# Altium footprint library Разъемы импортные.PcbLib: 127 footprints (part 7 of 8)
Each footprint in its own frame and in the unit in brackets; x right, y up, seen from the top. Pads: shape width x height; smd on the part's side, far side on the other; paste and mask are expansions set on the pad; w line width, h text height; cw(c..) or ccw(c..) is an arc to the next point about the centre after c.
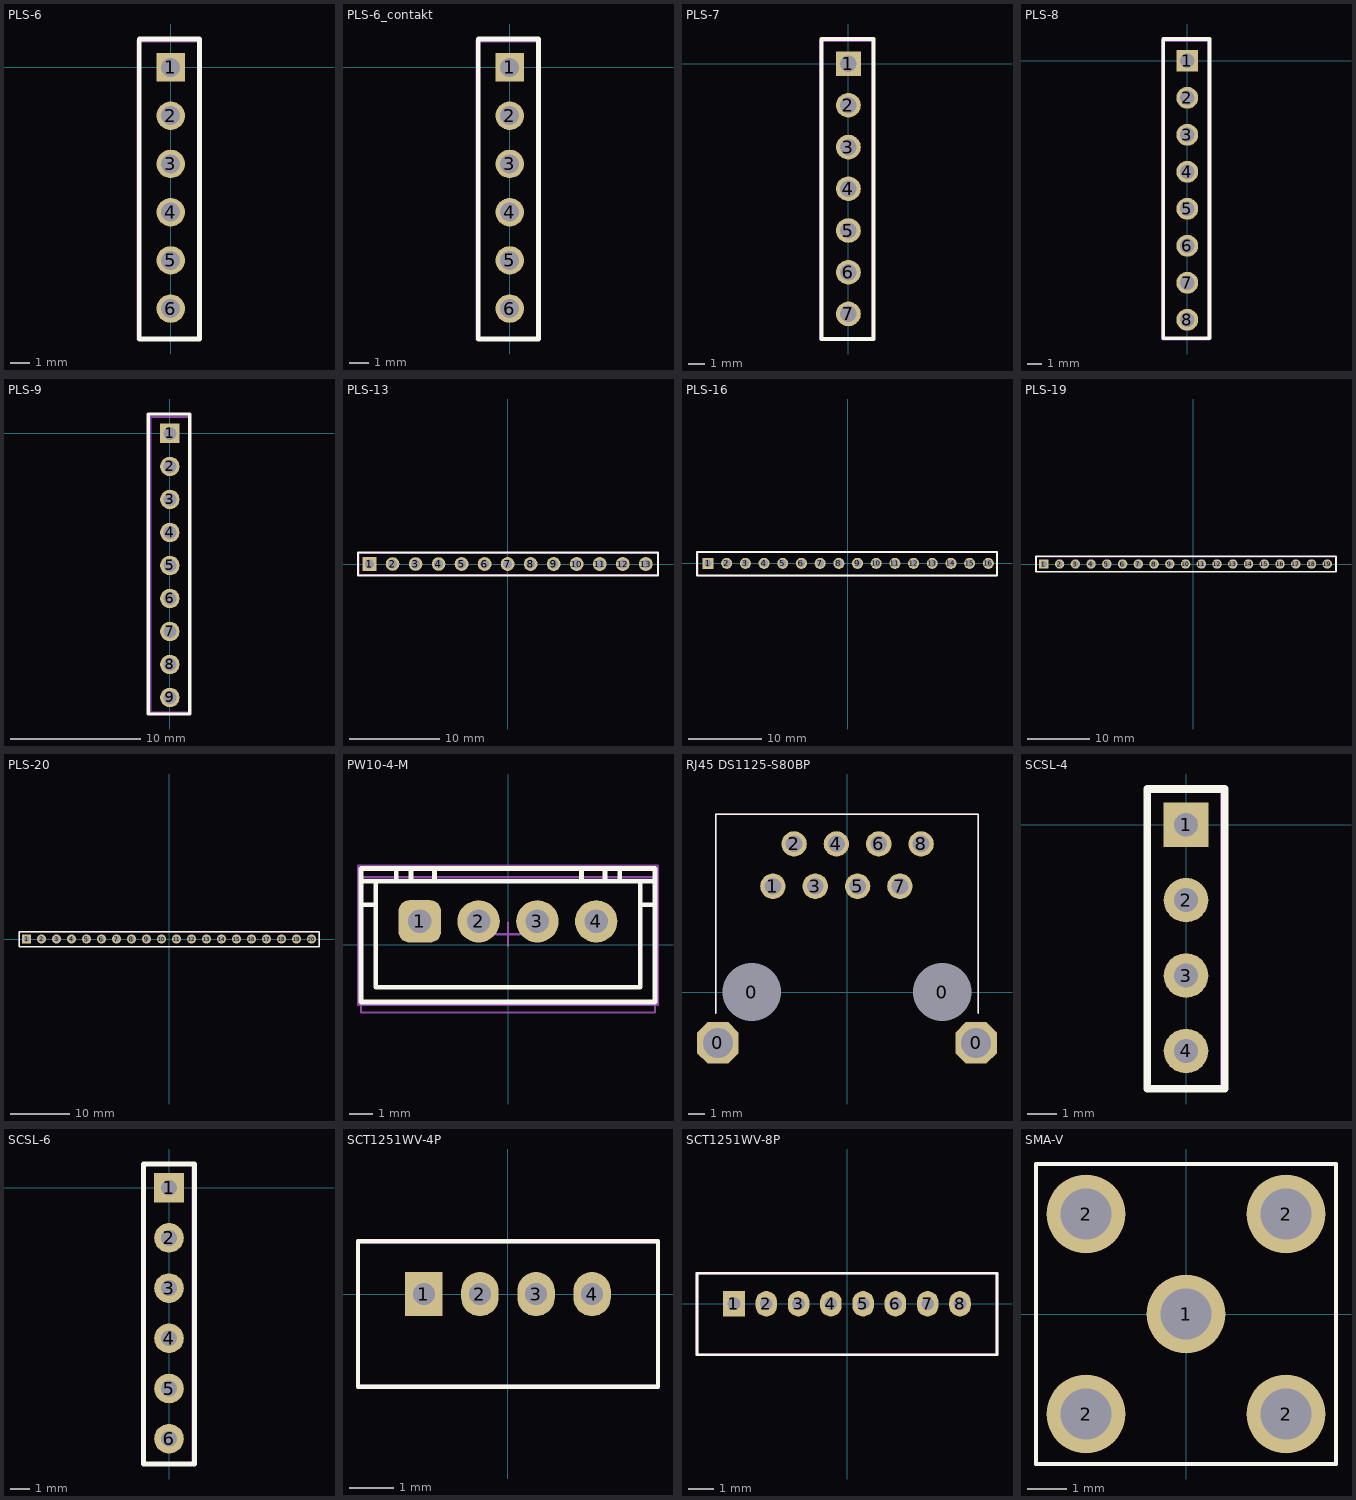
[diagram p6: the footprints below, top view; thin cyan lines are the x and y axes]

## PLS-6 [mm]
pads (6):
  rect 1.5x1.5 hole 1: 1(0,0)
  round 1.5 hole 1: 2(0,-2.54) 3(0,-5.08) 4(0,-7.62) 5(0,-10.16) 6(0,-12.7)
Top Overlay:
  lines w0.254: -1.65,-14.3 1.524,-14.3 1.524,1.497 -1.65,1.497 -1.65,-14.3
TopAssy:
  lines w0.2: -1.7,-14.3 -1.7,1.4 1.5,1.4 1.5,-14.3 -1.7,-14.3
  text ".Designator" at -0.7,0.8 h3
3D body "PLD-2.STEP": height 8.44, standoff -3, extent -1.27,-8.89 1.27,-3.81
3D body "PLD-2.STEP": height 8.44, standoff -3, extent -1.27,-3.81 1.27,1.27
3D body "PLD-2.STEP": height 8.44, standoff -3, extent -1.27,-13.97 1.27,-8.89

## PLS-6_contakt [mm]
pads (6):
  rect 1.5x1.5 hole 1: 1(0,0)
  round 1.5 hole 1: 2(0,-2.54) 3(0,-5.08) 4(0,-7.62) 5(0,-10.16) 6(0,-12.7)
Top Overlay:
  lines w0.254: -1.65,-14.3 1.524,-14.3 1.524,1.497 -1.65,1.497 -1.65,-14.3
TopAssy:
  lines w0.2: -1.7,-14.3 -1.7,1.4 1.5,1.4 1.5,-14.3 -1.7,-14.3

## PLS-7 [mm]
pads (7):
  rect 1.5x1.5 hole 1: 1(0,0)
  round 1.5 hole 1: 2(0,-2.54) 3(0,-5.08) 4(0,-7.62) 5(0,-10.16) 6(0,-12.7) 7(0,-15.24)
Top Overlay:
  lines w0.254: -1.65,-16.764 1.524,-16.764 1.524,1.497 -1.65,1.497 -1.65,-16.764
TopAssy:
  lines w0.2: -1.7,-16.764 -1.7,1.4 1.5,1.4 1.5,-16.764 -1.7,-16.764
  text ".Designator" at -0.7,-2.6 h3
3D body "PLS-7.step": height 8.54, standoff -3, extent -1.27,-16.51 1.27,1.27

## PLS-8 [mm]
pads (8):
  rect 1.5x1.5 hole 1: 1(0,0)
  round 1.5 hole 1: 2(0,-2.54) 3(0,-5.08) 4(0,-7.62) 5(0,-10.16) 6(0,-12.7) 7(0,-15.24) 8(0,-17.78)
Top Overlay:
  lines w0.254: -1.65,-19.05 1.524,-19.05 1.524,1.497 -1.65,1.497 -1.65,-19.05
TopAssy:
  lines w0.2: -1.7,-19.1 -1.7,1.4 1.5,1.4 1.5,-19.1 -1.7,-19.1
  text ".Designator" at -0.7,-2.6 h3
3D body "PLD-2.STEP": height 8.44, standoff -3, extent -1.27,-19.05 1.27,-13.97
3D body "PLD-2.STEP": height 8.44, standoff -3, extent -1.27,-13.97 1.27,-8.89
3D body "PLD-2.STEP": height 8.44, standoff -3, extent -1.27,-8.89 1.27,-3.81
3D body "PLD-2.STEP": height 8.44, standoff -3, extent -1.27,-3.81 1.27,1.27

## PLS-9 [mm]
pads (9):
  rect 1.5x1.5 hole 1: 1(0,0)
  round 1.5 hole 1: 2(0,-2.54) 3(0,-5.08) 4(0,-7.62) 5(0,-10.16) 6(0,-12.7) 7(0,-15.24) 8(0,-17.78) 9(0,-20.32)
Top Overlay:
  lines w0.254: -1.65,-21.59 1.524,-21.59 1.524,1.497 -1.65,1.497 -1.65,-21.59
TopAssy:
  lines w0.2: -1.5,-21.5 -1.5,1.3 1.5,1.3 1.5,-21.5 -1.5,-21.5
  text ".Designator" at -0.7,-2.2 h3
3D body "User Library-PLS-3.STEP": height 8.54, standoff -3, extent -1.27,-6.35 1.27,1.27
3D body "User Library-PLS-3.STEP": height 8.54, standoff -3, extent -1.27,-21.59 1.27,-13.97
3D body "User Library-PLS-3.STEP": height 8.54, standoff -3, extent -1.27,-13.97 1.27,-6.35

## PLS-13 [mm]
pads (13):
  rect 1.5x1.5 hole 1: 1(-15.24,0)
  round 1.5 hole 1: 2(-12.7,0) 3(-10.16,0) 4(-7.62,0)
  round 1.524 hole 1: 5(-5.08,0) 6(-2.54,0) 7(0,0) 8(2.54,0) 9(5.08,0) 10(7.62,0) 11(10.16,0) 12(12.7,0) 13(15.24,0)
Top Overlay:
  lines w0.254: -16.51,-1.27 16.59,-1.27 16.59,1.27 -16.51,1.27 -16.51,-1.27
TopAssy:
  lines w0.2: -16.46,-1.2 -16.46,1.2 16.59,1.2 16.59,-1.2 -16.46,-1.2
  text ".Designator" at -6.3,-0.9 h3
3D body "PLS-5.step": height 8.54, standoff -3, extent -3.81,-1.27 8.89,1.27
3D body "PLS-5.step": height 8.54, standoff -3, extent -16.51,-1.27 -3.81,1.27
3D body "PLS-1 _12.1 мм.stp": height 14.64, standoff -3, extent 8.89,-1.27 11.43,1.27
3D body "PLS-1 _12.1 мм.stp": height 14.64, standoff -3, extent 11.43,-1.27 13.97,1.27
3D body "PLS-1 _12.1 мм.stp": height 14.64, standoff -3, extent 13.97,-1.27 16.51,1.27

## PLS-16 [mm]
pads (16):
  rect 1.5x1.5 hole 1: 1(-18.96,0)
  round 1.5 hole 1: 2(-16.42,0) 3(-13.88,0) 4(-11.34,0) 5(-8.8,0) 6(-6.26,0) 7(-3.72,0) 8(-1.18,0) 9(1.36,0) 10(3.9,0) 11(6.44,0) 12(8.98,0) 13(11.52,0) 14(14.06,0) 15(16.6,0) 16(19.14,0)
Top Overlay:
  lines w0.254: -20.457,-1.65 -20.457,1.524 20.32,1.524 20.32,-1.65 -20.457,-1.65
TopAssy:
  lines w0.2: -20.36,-1.7 20.32,-1.7 20.32,1.5 -20.36,1.5 -20.36,-1.7
  text ".Designator" at -16.36,-0.7 h3
3D body "PLD-2.STEP": height 8.44, standoff -3, extent 15.33,-1.27 20.41,1.27
3D body "PLD-2.STEP": height 8.44, standoff -3, extent 10.25,-1.27 15.33,1.27
3D body "PLD-2.STEP": height 8.44, standoff -3, extent 5.17,-1.27 10.25,1.27
3D body "PLD-2.STEP": height 8.44, standoff -3, extent 0.09,-1.27 5.17,1.27
3D body "PLD-2.STEP": height 8.44, standoff -3, extent -4.99,-1.27 0.09,1.27
3D body "PLD-2.STEP": height 8.44, standoff -3, extent -10.07,-1.27 -4.99,1.27
3D body "PLD-2.STEP": height 8.44, standoff -3, extent -15.15,-1.27 -10.07,1.27
3D body "PLD-2.STEP": height 8.44, standoff -3, extent -20.23,-1.27 -15.15,1.27

## PLS-19 [mil]
pads (19):
  rect 59.06x59.06 hole 39.37: 1(-950,0)
  round 59.06 hole 39.37: 2(-850,0) 3(-750,0) 4(-650,0)
  round 60 hole 39.37: 5(-550,0) 6(-450,0) 7(-350,0) 8(-250,0) 9(-150,0) 10(-50,0) 11(50,0) 12(150,0) 13(250,0) 14(350,0) 15(450,0) 16(550,0) 17(650,0) 18(750,0) 19(850,0)
Top Overlay:
  lines w10: -1000,-50 -1000,50 905.51,50 905.51,-50 -1000,-50
TopAssy:
  lines w7.87: -998.03,-47.24 905.51,-47.24 905.51,47.24 -998.03,47.24 -998.03,-47.24
  text ".Designator" at -150,-50 h118.11
3D body "PLS-1 _12.1 мм.stp": height 576.38, standoff -118.11, extent 800,-50 900,50
3D body "PLS-1 _12.1 мм.stp": height 576.38, standoff -118.11, extent 700,-50 800,50
3D body "PLS-1 _12.1 мм.stp": height 576.38, standoff -118.11, extent 600,-50 700,50
3D body "PLS-1 _12.1 мм.stp": height 576.38, standoff -118.11, extent 500,-50 600,50
3D body "PLS-5.step": height 336.22, standoff -118.11, extent -1000,-50 -500,50
3D body "PLS-5.step": height 336.22, standoff -118.11, extent -500,-50 0,50
3D body "PLS-5.step": height 336.22, standoff -118.11, extent 0,-50 500,50

## PLS-20 [mil]
pads (20):
  rect 59.06x59.06 hole 39.37: 1(-950,0)
  round 59.06 hole 39.37: 2(-850,0) 3(-750,0) 4(-650,0)
  round 60 hole 39.37: 5(-550,0) 6(-450,0) 7(-350,0) 8(-250,0) 9(-150,0) 10(-50,0) 11(50,0) 12(150,0) 13(250,0) 14(350,0) 15(450,0) 16(550,0) 17(650,0) 18(750,0) 19(850,0) 20(950,0)
Top Overlay:
  lines w10: -1000,-50 1000,-50 1000,50 -1000,50 -1000,-50
TopAssy:
  lines w7.87: -998.03,-47.24 -998.03,47.24 1000,47.24 1000,-47.24 -998.03,-47.24
  text ".Designator" at -150,-50 h118.11
3D body "PLS-5.step": height 336.22, standoff -118.11, extent 500,-50 1000,50
3D body "PLS-5.step": height 336.22, standoff -118.11, extent 0,-50 500,50
3D body "PLS-5.step": height 336.22, standoff -118.11, extent -500,-50 0,50
3D body "PLS-5.step": height 336.22, standoff -118.11, extent -1000,-50 -500,50

## PW10-4-M [mm]
height 7
pads (4):
  rrect50% 1.8x1.8 hole 1: 1(-3.75,1)
  round 1.8 hole 1: 2(-1.25,1) 3(1.25,1) 4(3.75,1)
Top Overlay:
  lines w0.2: -6.25,1.7 -5.625,1.7 ; -6.25,2.7 -5.625,2.7 ; -4.75,2.7 -4.75,3.25 ; -4.125,2.7 -4.125,3.25 ; -3.125,2.7 -3.125,3.25 ; 3.125,2.7 3.125,3.25 ; 4.125,2.7 4.125,3.25 ; 4.75,2.7 4.75,3.25 ; 5.625,1.7 6.25,1.7 ; 6.25,2.7 5.625,2.7 ; -5.625,2.7 5.625,2.7 ; -5.625,2.7 -5.625,-1.8 5.625,-1.8 5.625,2.7 ; -6.25,-2.425 -6.25,3.25 6.25,3.25 6.25,-2.425 -6.25,-2.425
Mechanical 13:
  lines w0.1: -6.25,-2.875 -6.25,2.875 6.25,2.875 6.25,-2.875 -6.25,-2.875
Mechanical 15:
  lines w0.1: -0.5,0.45 0.5,0.45 ; 0,-0.05 0,0.95 ; -6.375,-2.55 -6.375,3.375 6.375,3.375 6.375,-2.55 -6.375,-2.55
3D body "Разъем PW 10- 4-M W7600-04PSNTW0R.STEP": height 7, standoff -3.3, extent -6.25,-2.425 6.25,3.275

## RJ45 DS1125-S80BP [mm]
pads (12):
  oct 2.5x2.5 hole 1.8: 0(-7.75,-3.05) 0(7.75,-3.05)
  round 1.524 hole 3.5 unplated: 0(-5.715,0)
  round 1.524 hole 3.5: 0(5.715,0)
  round 1.524 hole 1: 1(-4.445,6.35) 2(-3.175,8.89) 3(-1.905,6.35) 4(-0.635,8.89) 5(0.635,6.35) 6(1.905,8.89) 7(3.175,6.35) 8(4.445,8.89)
Top Overlay:
  lines w0.1: -7.874,-1.27 -7.874,10.668 7.874,10.668 7.874,-1.27
TopAssy:
  lines w0.1: -7.874,-1.27 -7.874,10.668 7.874,10.668 7.874,-1.27
  text ".Designator" at -6.29,2.348 h3
3D body "ACC-M-FRJAE-438-REVT1.step": height 14.91, standoff -2.91, extent -7.695,-8.128 7.695,10.541

## SCSL-4 [mm]
pads (4):
  rect 1.5x1.5 hole 0.8: 1(0,0)
  round 1.5 hole 0.8: 2(0,-2.54) 3(0,-5.08) 4(0,-7.62)
Top Overlay:
  lines w0.254: -1.3,-8.89 1.3,-8.89 1.3,1.2 -1.3,1.2 -1.3,-8.89
TopAssy:
  lines w0.2: -1.3,-8.9 -1.3,1.2 1.24,1.2 1.24,-8.9 -1.3,-8.9
  text ".Designator" at -0.8,-6.8 h3
3D body "цанга-ds1002-01-1_2v13_asm.STEP": height 4.4, standoff -3, extent -1.3,-8.92 1.24,-3.84
3D body "цанга-ds1002-01-1_2v13_asm.STEP": height 4.4, standoff -3, extent -1.3,-3.84 1.24,1.24

## SCSL-6 [mm]
pads (6):
  rect 1.5x1.5 hole 0.8: 1(0,0)
  round 1.5 hole 0.8: 2(0,-2.54) 3(0,-5.08) 4(0,-7.62) 5(0,-10.16) 6(0,-12.7)
Top Overlay:
  lines w0.254: -1.3,-13.97 1.3,-13.97 1.3,1.2 -1.3,1.2 -1.3,-13.97
TopAssy:
  lines w0.2: -1.3,-13.98 1.24,-13.98 1.24,1.2 -1.3,1.2 -1.3,-13.98
  text ".Designator" at -0.8,-6.8 h3
3D body "цанга-ds1002-01-1_2v13_asm.STEP": height 4.4, standoff -3, extent -1.3,-14 1.24,-8.92
3D body "цанга-ds1002-01-1_2v13_asm.STEP": height 4.4, standoff -3, extent -1.3,-3.84 1.24,1.24
3D body "цанга-ds1002-01-1_2v13_asm.STEP": height 4.4, standoff -3, extent -1.3,-8.92 1.24,-3.84

## SCT1251WV-4P [mm]
pads (4):
  rect 0.85x1 hole 0.5: 1(-1.905,0)
  oval 0.85x1 hole 0.5: 2(-0.635,0) 3(0.635,0) 4(1.905,0)
Top Overlay:
  lines w0.1: -3.4,-2.1 3.4,-2.1 3.4,1.2 -3.4,1.2 -3.4,-2.1
TopAssy:
  lines w0.1: -3.4,-2.1 -3.4,1.2 3.4,1.2 3.4,-2.1 -3.4,-2.1
  text ".Designator" at -1.2,-0.8 h1.52
3D body "53047-0410.step": height 4.47, standoff -2.02, extent -3.4,-2.032 3.35,1.168

## SCT1251WV-8P [mm]
pads (8):
  rect 0.85x1 hole 0.5: 1(-4.445,0)
  oval 0.85x1 hole 0.5: 2(-3.175,0) 3(-1.905,0) 4(-0.635,0) 5(0.635,0) 6(1.905,0) 7(3.175,0) 8(4.445,0)
Top Overlay:
  lines w0.1: -5.9,-2 5.9,-2 5.9,1.2 -5.9,1.2 -5.9,-2
TopAssy:
  lines w0.1: -5.9,-2 -5.9,1.2 5.9,1.2 5.9,-2 -5.9,-2
  text ".Designator" at -1.2,-0.8 h1.52
3D body "53047-0810.stp": height 4.47, standoff -2.02, extent -5.875,-2 5.875,1.2

## SMA-V [mm]
pads (5):
  round 2 hole 1.3: 1(0,0) 2(-2.54,-2.54) 2(-2.54,2.54) 2(2.54,-2.54) 2(2.54,2.54)
Top Overlay:
  lines w0.1: -3.81,-3.81 -3.81,3.81 3.81,3.81 3.81,-3.81 -3.81,-3.81
TopAssy:
  lines w0.1: -3.81,-3.81 3.81,-3.81 3.81,3.81 -3.81,3.81
  text ".Designator" at -2.47,0.47 h1.52
3D body "SMA.stp": height 0, standoff -13.5, extent -3.2,-3.2 3.2,3.2